# EAGLE library part EEPROM (library CougsInSpace)
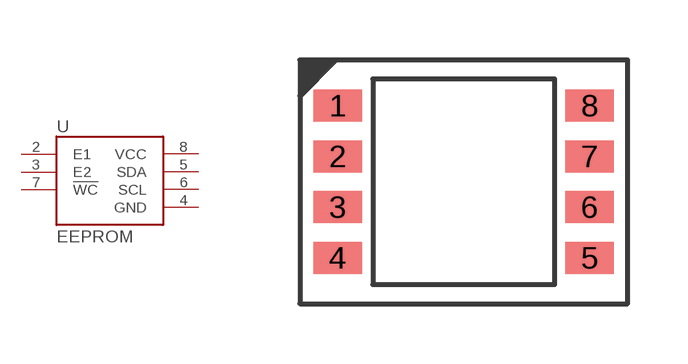
[diagram p11: symbol with the pads of SO8; footprint SO8]

Designator prefix U

## EEPROMSO8  [SO8]
2  E1
3  E2
4  GND  pwr
5  SDA
6  SCL  in
7  !WC  in
8  VCC  pwr

## Footprint SO8 (pad centres in mm)
smd 1.2 x 0.8: 1 -3.15,1.905; 2 -3.15,0.635; 3 -3.15,-0.635; 4 -3.15,-1.905; 5 3.15,-1.905; 6 3.15,-0.635; 7 3.15,0.635; 8 3.15,1.905